# Altium integrated library TC4420CPA.IntLib: 1 symbol
Pins are listed as number, name and electrical type; pins without a type are passive.

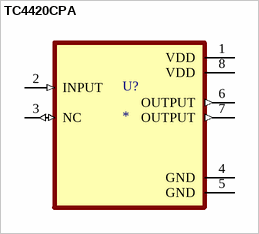
[diagram p0: symbol TC4420CPA]

## TC4420CPA
designator U?
Microchip MOSFET Power Driver 6A 4.5 to 18V Non-Inverting 8-Pin PDIP | Microchip Technology Inc. TC4420CPA; SnapEDA_Link: https://www.snapeda.com/parts/TC4420CPA/Microchip/view-part/?ref=snap; Package: DIP-8 Microchip; Value: *; MF: Microchip; MP: TC4420CPA; Check_prices: https://www.snapeda.com/parts/TC4420CPA/Microchip/view-part/?ref=eda
footprint DIP787W46P254L927H533Q8
pins: 1 VDD (power), 2 INPUT (in), 3 NC (io), 4 GND (power), 5 GND (power), 6 OUTPUT (out), 7 OUTPUT (out), 8 VDD (power)